# Altium footprint library energie.PcbLib: 13 footprints
Each footprint in its own frame and in the unit in brackets; x right, y up, seen from the top. Pads: shape width x height; smd on the part's side, far side on the other; paste and mask are expansions set on the pad; w line width, h text height; cw(c..) or ccw(c..) is an arc to the next point about the centre after c.
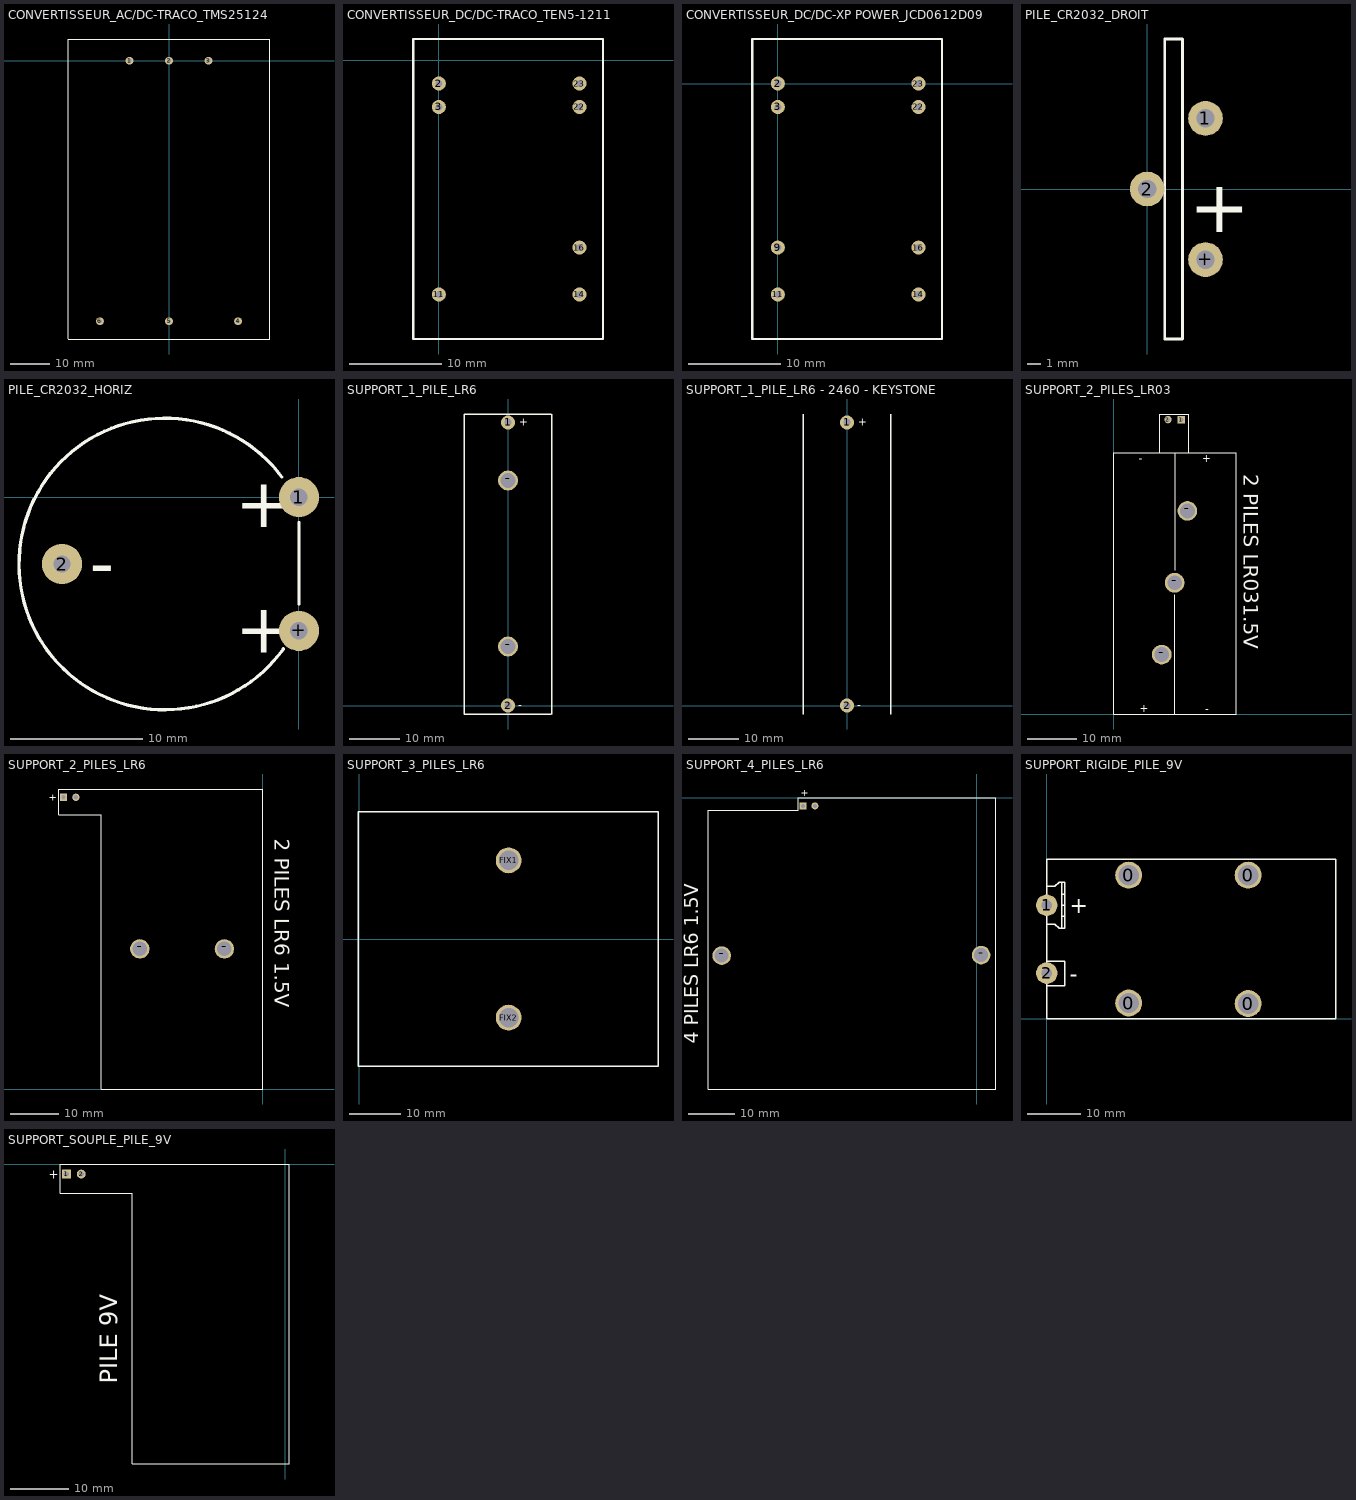
[diagram p0: the footprints below, top view; thin cyan lines are the x and y axes]

## CONVERTISSEUR_AC/DC-TRACO_TMS25124 [mm]
pads (6):
  round 2 hole 1: 1(-10,0) 2(0,0) 3(10,0) 4(17.5,-66) 5(0,-66) 6(-17.5,-66)
Top Overlay:
  lines w0.254: -25.5,-70.5 25.5,-70.5 ; -25.5,-70.485 -25.5,5.5 25.5,5.5 25.5,-70.485

## CONVERTISSEUR_DC/DC-TRACO_TEN5-1211 [mil]
pads (7):
  round 60 hole 30: 2(0,-100) 3(0,-200) 11(0,-1000) 14(600,-1000) 16(600,-800) 22(600,-200) 23(600,-100)
Top Overlay:
  lines w10: -110,-1190 700,-1190 700,90 -110,90 -110,-1190
3D body: height 396.06, standoff -78.74, extent -97.4,-1179.92 690,79.92

## CONVERTISSEUR_DC/DC-XP POWER_JCD0612D09 [mil]
pads (8):
  round 60 hole 30: 2(0,0) 3(0,-100) 9(0,-700) 11(0,-900) 14(600,-900) 16(600,-700) 22(600,-100) 23(600,0)
Top Overlay:
  lines w10: -110,-1090 -110,190 700,190 700,-1090 -110,-1090

## PILE_CR2032_DROIT [mil] "Pile Lithium; CR2032; Vertical; 10X4.2mm:Fix; Diameter:21.5"
height 984.25
pads (3):
  round 98.43 hole 52: 1(165.35,200) 2(0,0) +(165.35,-200)
Top Overlay:
  lines w8: 50,-425 50,425 100,425 100,-425 50,-425
  text "+" at 119.45,-122.5 h150
3D body: height 827.07, standoff -157.48, extent 10,-394 159.92,394

## PILE_CR2032_HORIZ [mil] "Pile Lithium; CR2032; Horizontal; Fix:18mm/10.16mm"
height 196.85
pads (3):
  round 120 hole 52: 1(0,0) 2(-708.66,-200) +(0,-400)
Top Overlay:
  lines w8: 0,-320 0,-75
  lines w10: -51.23,60.36 ccw(c-401.18,-200) -46.5,-453.88
  text "-" at -625,-270 h150
  text "+" at -190,-465 h150
  text "+" at -190,-90 h150
3D body: height 246.06, standoff -195.79, extent -798.6,-597.38 -1.4,190

## SUPPORT_1_PILE_LR6 [mm]
pads (4):
  round 2.8 hole 1.5: 1(0,56.6) 2(0,0)
  round 4 hole 3: -(0,11.8) -(0,45)
Top Overlay:
  lines w0.254: -8.7,-1.7 8.699,-1.7 8.7,58.3 -8.7,58.3 -8.7,-1.7
  text "+" at 2.222,55.958 h1.52
  text "-" at 2.095,-0.684 h1.52

## SUPPORT_1_PILE_LR6 - 2460 - KEYSTONE [mm] "SUPPORT MODELE 2460 - KEYSTONE - LR6 - 56.6mm x 16.7mm - ESPACEMENT BROCHES : 56mm"
pads (2):
  round 2.8 hole 1.5: 1(0,56.6) 2(0,0)
Top Overlay:
  lines w0.254: -8.7,-1.7 -8.7,58.3 ; 8.7,-1.7 8.7,58.3
  text "-" at 2.095,-0.684 h1.52
  text "+" at 2.222,55.958 h1.52

## SUPPORT_2_PILES_LR03 [mm] "Connector; 2 Position; Pin Spacing=2.54mm; SIP2"
pads (5):
  rect 1.5x1.5 hole 0.9: 1(13.716,59.817)
  round 1.5 hole 0.9: 2(11.049,59.817)
  round 4 hole 3: -(9.779,12.065) -(12.4,26.67) -(14.986,41.275)
Top Overlay:
  lines w0.2: 12.446,0 12.446,24.257 ; 12.527,29.21 12.527,53.086 ; 0,0 24.892,0 24.892,53.086 0,53.086 0,52.863 0,0
  lines w0.254: 9.398,53.086 9.398,60.96 15.24,60.96 15.24,53.086
  text "-" at 5.08,51.181 h1.52
  text "-" at 18.669,0.254 h1.52
  text "+" at 5.334,0.381 h1.52
  text "+" at 18.034,51.181 h1.52
  text "2 PILES LR031.5V" at 26.416,48.768 h3
3D body: height 11.68, standoff 0, extent -0.381,1.27 25.019,52.07

## SUPPORT_2_PILES_LR6 [mm] "Connector; 2 Position; Pin Spacing=2.54mm; SIP2"
pads (4):
  rect 1.5x1.5 hole 0.9: 1(-41.281,60.386)
  round 1.5 hole 0.9: 2(-38.741,60.386)
  round 4 hole 3: -(-25.5,29) -(-8,29)
Top Overlay:
  lines w0.2: -42.297,56.8 -42.297,62.1 0,62.1 0,0 -33.5,0 -33.5,56.8 -42.297,56.8
  text "+" at -44.329,59.624 h1.52
  text "2 PILES LR6 1.5V" at 2.413,51.816 h3
3D body: height 16.74, standoff -2.63, extent -41.789,57.084 -3.9,62.1
3D body: height 15.11, standoff 0, extent -33.21,0.204 -0.19,57.1

## SUPPORT_3_PILES_LR6 [mm] "AA SIZE BATTERY HOLDER; Open style; Pin Spacing Fix=33mm; Pin Spacing=56.8mm"
height 25
pads (2):
  round 5 hole 3.8: FIX1(28.956,15.24) FIX2(28.956,-15.24)
Top Overlay:
  lines w0.254: -0.254,-24.638 57.912,-24.638 57.912,24.638 -0.254,24.638 -0.254,-24.638
3D body: height 16.51, standoff 0, extent 0,-24.638 57.658,24.638

## SUPPORT_4_PILES_LR6 [mm] "Connector; 2 Position; Pin Spacing=2.54mm; SIP2"
pads (4):
  rect 1.5x1.5 hole 0.9: 1(-37.381,-1.714)
  round 1.5 hole 0.9: 2(-34.841,-1.714)
  round 4 hole 3: -(-54.9,-33.9) -(0.9,-33.8)
Top Overlay:
  lines w0.2: -57.8,-62.6 -57.8,-2.6 -38.397,-2.6 -38.397,0 4,0 4,-62.6 -57.8,-62.6
  text "4 PILES LR6 1.5V" at -59.9,-52.9 h3
  text "+" at -37.9,0.4 h1.52
3D body: height 17.11, standoff 2, extent -57.668,-62.363 3.8,-2.8
3D body: height 16.74, standoff -2.63, extent -37.889,-5.016 0,0

## SUPPORT_RIGIDE_PILE_9V [mm]
pads (6):
  round 5 hole 3.8: 0(15.24,2.89) 0(15.24,26.67) 0(37.46,2.794) 0(37.46,26.67)
  round 4 hole 2: 1(0,21.082) 2(0,8.45)
Top Overlay:
  lines w0.254: 0,6.096 3.302,6.096 3.302,10.668 0,10.668 ; 0,17.526 1.524,17.526 2.286,16.764 3.302,16.764 3.302,18.034 3.302,25.4 2.286,25.4 1.524,24.638 0,24.638 ; 2.794,16.764 2.794,23.114 ; 2.794,19.05 3.302,19.05 ; 2.794,21.082 3.302,21.082 ; 2.794,25.4 2.794,23.114 ; 3.302,23.114 2.794,23.114 ; 0,0 0,29.6 53.8,29.6 53.8,0 0,0
  text "+" at 4.318,19.558 h3
  text "-" at 4.318,6.858 h3
3D body: height 17, standoff -0.02, extent 3.302,1.714 51.308,27.75

## SUPPORT_SOUPLE_PILE_9V [mm] "Connector; 2 Position; Pin Spacing=2.54mm; SIP2"
pads (2):
  rect 1.5x1.5 hole 0.9: 1(-37.381,-1.714)
  round 1.5 hole 0.9: 2(-34.841,-1.714)
Top Overlay:
  lines w0.2: -38.397,-5 -38.397,0 0.7,0 0.7,-51.2 -26.1,-51.2 -26.1,-5 -38.397,-5
  text "+" at -40.429,-2.476 h1.52
  text "PILE 9V" at -28.7,-37.5 h3
3D body: height 18.02, standoff 1, extent -25.817,-50.706 0.218,-2.7
3D body: height 16.74, standoff -2.63, extent -37.889,-5.016 0,0